# Altium footprint library Transformators.PcbLib: 4 footprints
Each footprint in its own frame and in the unit in brackets; x right, y up, seen from the top. Pads: shape width x height; smd on the part's side, far side on the other; paste and mask are expansions set on the pad; w line width, h text height; cw(c..) or ccw(c..) is an arc to the next point about the centre after c.
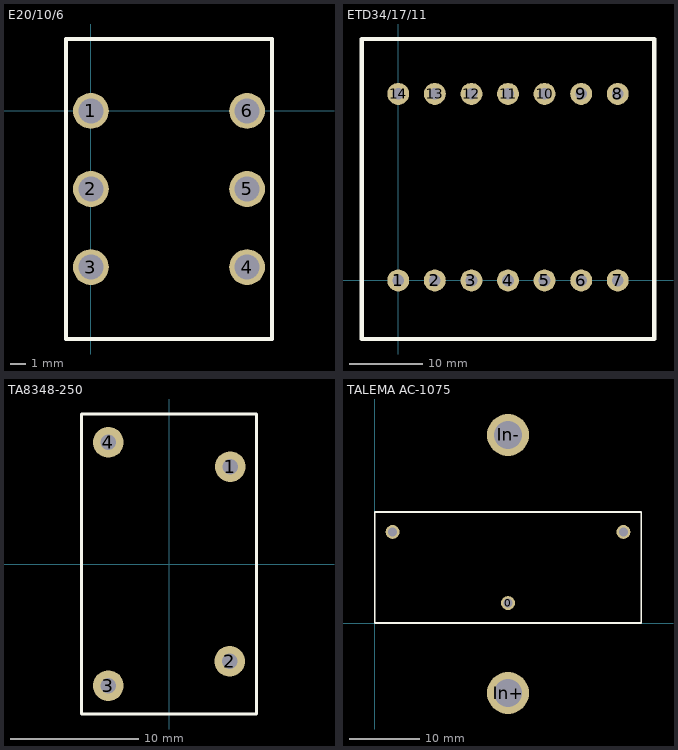
[diagram p0: the footprints below, top view; thin cyan lines are the x and y axes]

## E20/10/6 [mm]
pads (6):
  round 2.3 hole 1.6: 1(0,0) 2(0,-5) 3(0,-10) 4(10,-10) 5(10,-5) 6(10,0)
Top Overlay:
  lines w0.254: -1.6,-14.6 -1.6,4.6 11.6,4.6 11.6,-14.6 -1.6,-14.6
3D body "User Library-Trafo EE20.STEP": height 20.8, standoff -2.6, extent -1,-15 11,5

## ETD34/17/11 [mm]
pads (14):
  round 3 hole 1.6: 1(0,0) 2(5,0) 3(10,0) 4(15,0) 5(20,0) 6(25,0) 7(30,0) 8(30,25.5) 9(25,25.5) 10(20,25.5) 11(15,25.5) 12(10,25.5) 13(5,25.5) 14(0,25.5)
Top Overlay:
  lines w0.6: -5,-8 35,-8 35,33 -5,33 -5,-8
Mechanical 1:
  lines w0.1: -4.8,-8 34.8,-8 34.8,33 -4.8,33 -4.8,-8
3D body "User Library-ETD34.STEP": height 32.9, standoff -2.44, extent -4.8,-8 34.8,33

## TA8348-250 [mm]
pads (4):
  round 2.4 hole 1.2: 1(4.801,7.63) 2(4.75,-7.625) 3(-4.75,-9.525) 4(-4.75,9.525)
Top Overlay:
  lines w0.254: -6.858,-11.75 6.858,-11.75 6.858,11.75 -6.858,11.75 -6.858,-11.75

## TALEMA AC-1075 [mm]
pads (5):
  round 2 hole 1.3: 0(19.05,2.87) Out+(35.55,13.03) Out-(2.55,13.03)
  round 6 hole 4: In+(19.05,-10) In-(19.05,26.9)
Top Overlay:
  lines w0.254: 0,0 0,15.9 38.1,15.9 38.1,0 0,0
3D body "ACX-1150.stp": height 38.1, standoff -5.6, extent 0.075,-0.015 38.175,15.865